# Altium schematic symbol library CHXXX.schlib: 418 symbols (part 6 of 6)
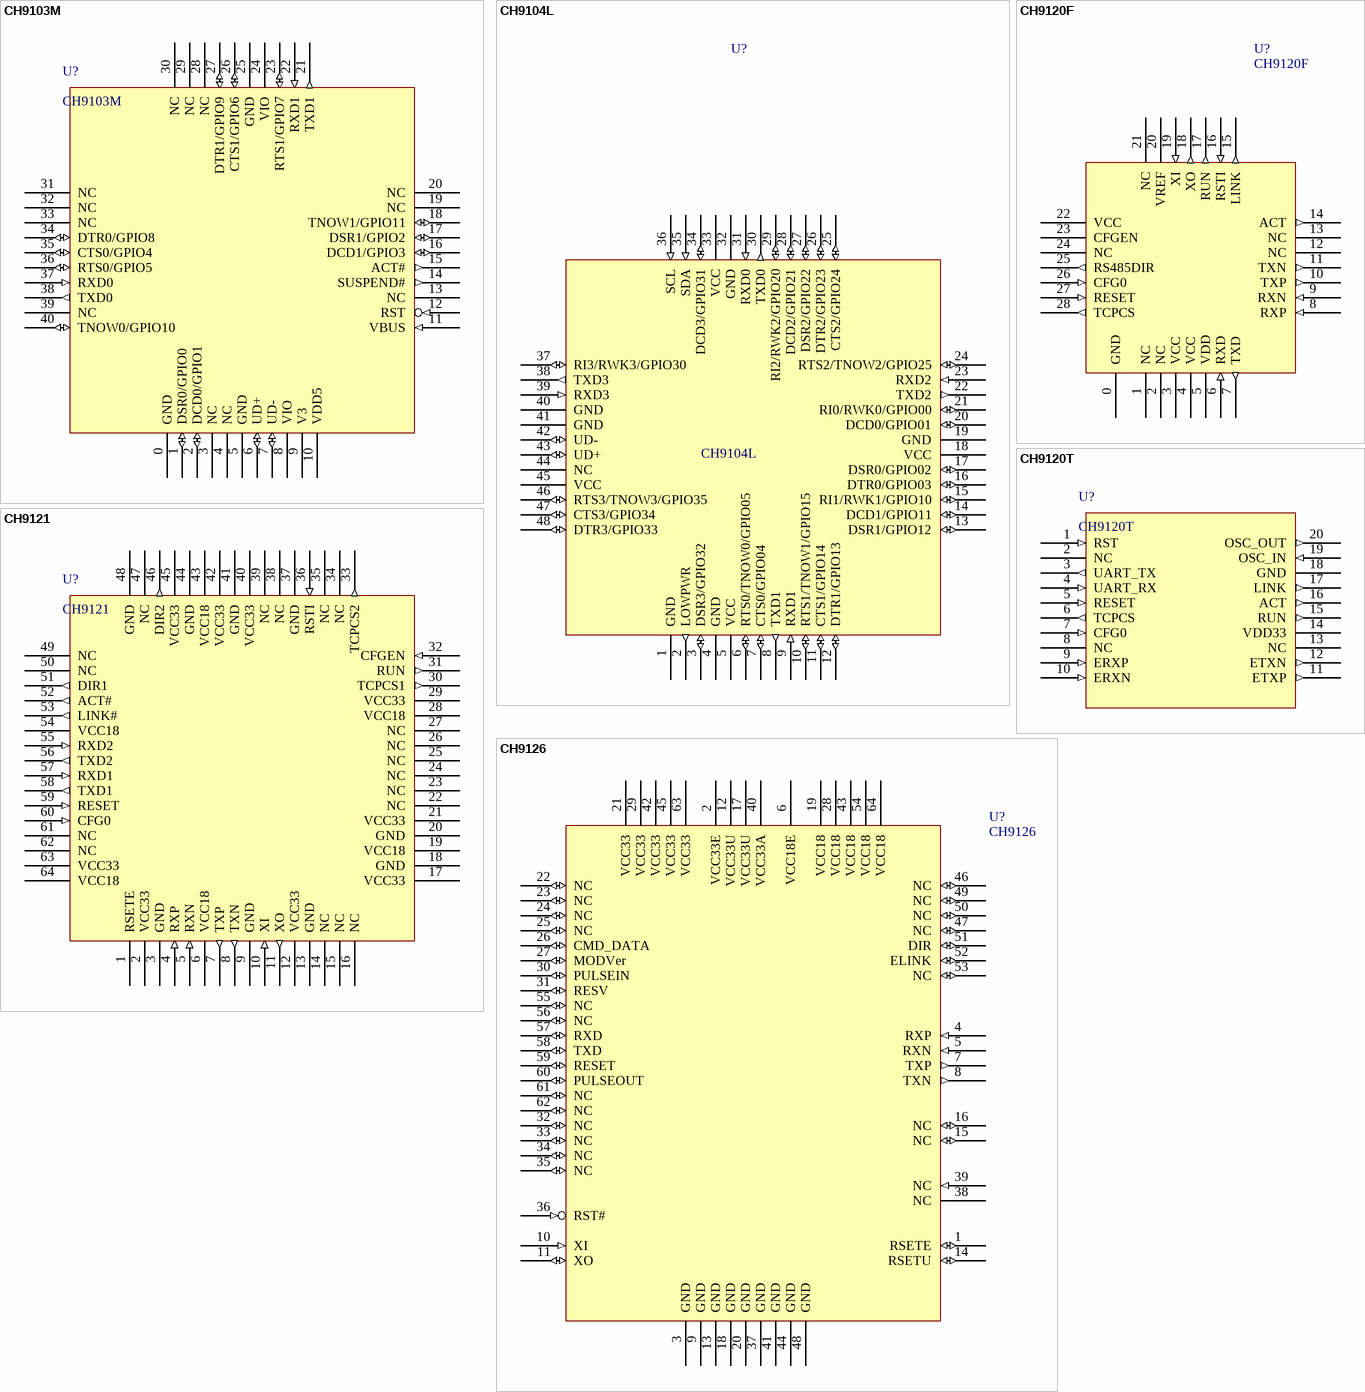
[diagram p54: symbols CH9103M to CH9126]

## CH9104L
designator U?
USB to quad serial ports / 4*UART
footprint TQFP48_7x7
pins: 1 GND (power), 2 LOWPWR (out), 3 DSR3/GPIO32 (io), 4 GND (power), 5 VCC (power), 6 RTS0/TNOW0/GPIO05 (io), 7 CTS0/GPIO04 (io), 8 TXD1 (out), 9 RXD1 (in), 10 RTS1/TNOW1/GPIO15 (io), 11 CTS1/GPIO14 (io), 12 DTR1/GPIO13 (io), 13 DSR1/GPIO12 (io), 14 DCD1/GPIO11 (io), 15 RI1/RWK1/GPIO10 (io), 16 DTR0/GPIO03 (io), 17 DSR0/GPIO02 (io), 18 VCC (power), 19 GND (power), 20 DCD0/GPIO01 (io), 21 RI0/RWK0/GPIO00 (io), 22 TXD2 (out), 23 RXD2 (in), 24 RTS2/TNOW2/GPIO25 (io), 25 CTS2/GPIO24 (io), 26 DTR2/GPIO23 (io), 27 DSR2/GPIO22 (io), 28 DCD2/GPIO21 (io), 29 RI2/RWK2/GPIO20 (io), 30 TXD0 (out), 31 RXD0 (in), 32 GND (power), 33 VCC (power), 34 DCD3/GPIO31 (io), 35 SDA (in), 36 SCL (in), 37 RI3/RWK3/GPIO30 (io), 38 TXD3 (out), 39 RXD3 (in), 40 GND (power), 41 GND (power), 42 UD- (io), 43 UD+ (io), 44 NC, 45 VCC (power), 46 RTS3/TNOW3/GPIO35 (io), 47 CTS3/GPIO34 (io), 48 DTR3/GPIO33 (io)

## CH9120F
designator U?
TTL serail / UART to 10Mbps ethernet
footprint QFN28_4X4
pins: 0 GND (power), 1 NC, 2 NC, 3 VCC (power), 4 VCC (power), 5 VDD (power), 6 RXD (in), 7 TXD (out), 8 RXP (in), 9 RXN (in), 10 TXP (out), 11 TXN (out), 12 NC, 13 NC, 14 ACT (out), 15 LINK (out), 16 RSTI (in), 17 RUN (out), 18 XO (out), 19 XI (in), 20 VREF (power), 21 NC, 22 VCC (power), 23 CFGEN, 24 NC, 25 RS485DIR (out), 26 CFG0 (in), 27 RESET (in), 28 TCPCS (out)

## CH9120T
designator U?
TTL serail / UART to 10Mbps ethernet
footprint TSSOP20
pins: 1 RST (in), 2 NC, 3 UART_TX (out), 4 UART_RX (in), 5 RESET (in), 6 TCPCS (out), 7 CFG0 (in), 8 NC, 9 ERXP (in), 10 ERXN (in), 11 ETXP (out), 12 ETXN (out), 13 NC, 14 VDD33 (power), 15 RUN (out), 16 ACT (out), 17 LINK (out), 18 GND (power), 19 OSC_IN (in), 20 OSC_OUT (out)

## CH9121
designator U?
dual TTL serail / 2*UART to 10Mbps/100Mbps Ethernet
footprint LQFP64M_10x10
pins: 1 RSETE, 2 VCC33 (power), 3 GND, 4 RXP (in), 5 RXN (in), 6 VCC18 (power), 7 TXP (out), 8 TXN (out), 9 GND (power), 10 XI (in), 11 XO (out), 12 VCC33 (power), 13 GND (power), 14 NC, 15 NC, 16 NC, 17 VCC33 (power), 18 GND (power), 19 VCC18 (power), 20 GND (power), 21 VCC33 (power), 22 NC, 23 NC, 24 NC, 25 NC, 26 NC, 27 NC, 28 VCC18 (power), 29 VCC33 (power), 30 TCPCS1 (out), 31 RUN (out), 32 CFGEN (in), 33 TCPCS2 (out), 34 NC, 35 NC, 36 RSTI (in), 37 GND (power), 38 NC, 39 NC, 40 VCC33 (power), 41 GND (power), 42 VCC33 (power), 43 VCC18 (power), 44 GND (power), 45 VCC33 (power), 46 DIR2 (out), 47 NC, 48 GND (power), 49 NC, 50 NC, 51 DIR1 (out), 52 ACT# (out), 53 LINK# (out), 54 VCC18 (power), 55 RXD2 (in), 56 TXD2 (out), 57 RXD1 (in), 58 TXD1 (out), 59 RESET (in), 60 CFG0 (in), 61 NC, 62 NC, 63 VCC33 (power), 64 VCC18 (power)

## CH9126
designator U?
SNTP via 100Mbps Ethernet
footprint LQFP64M_10x10
pins: 1 RSETE (io), 2 VCC33E (power), 3 GND (power), 4 RXP (in), 5 RXN (in), 6 VCC18E (power), 7 TXP (out), 8 TXN (out), 9 GND (power), 10 XI (in), 11 XO (io), 12 VCC33U (power), 13 GND (power), 14 RSETU (io), 15 NC (io), 16 NC (io), 17 VCC33U (power), 18 GND (power), 19 VCC18 (power), 20 GND (power), 21 VCC33 (power), 22 NC (io), 23 NC (io), 24 NC (io), 25 NC (io), 26 CMD_DATA (io), 27 MODVer (io), 28 VCC18 (power), 29 VCC33 (power), 30 PULSEIN (io), 31 RESV (io), 32 NC (io), 33 NC (io), 34 NC (io), 35 NC (io), 36 RST# (in), 37 GND (power), 38 NC (power), 39 NC (in), 40 VCC33A (power), 41 GND (power), 42 VCC33 (power), 43 VCC18 (power), 44 GND (power), 45 VCC33 (power), 46 NC (io), 47 NC (io), 48 GND (power), 49 NC (io), 50 NC (io), 51 DIR (io), 52 ELINK (io), 53 NC (io), 54 VCC18 (power), 55 NC (io), 56 NC (io), 57 RXD (io), 58 TXD (io), 59 RESET (io), 60 PULSEOUT (io), 61 NC (io), 62 NC (io), 63 VCC33 (power), 64 VCC18 (power)
2 alternate drawings of the same symbol

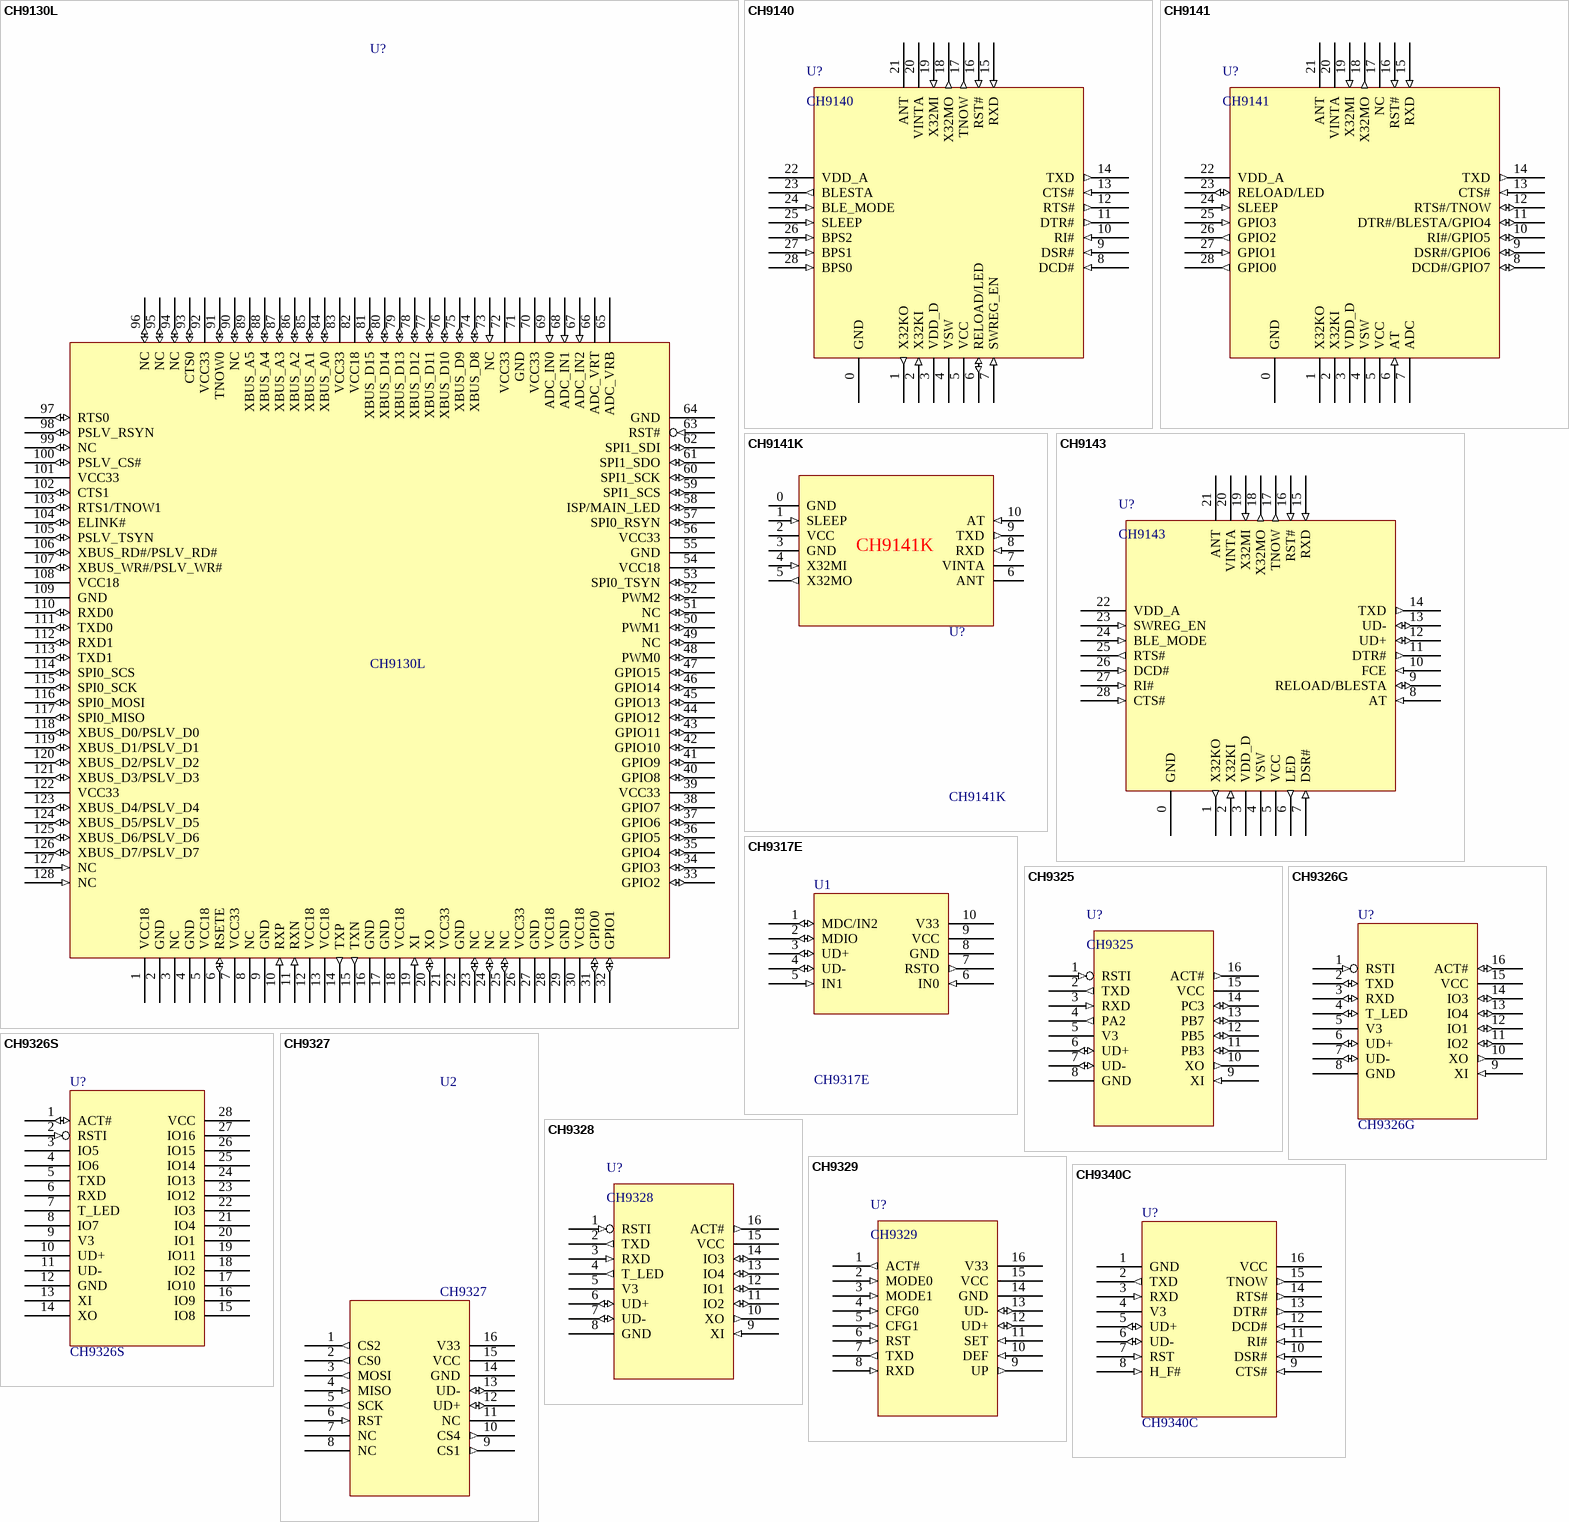
[diagram p46: symbols CH9130L to CH9340C]

## CH9130L
designator U?
remote UART/SPI/GPIO/ADC/PWM/parallel via 100Mbps Ethernet
footprint LQFP128
pins: 1 VCC18 (power), 2 GND (power), 3 NC, 4 GND (power), 5 VCC18 (power), 6 RSETE (io), 7 VCC33 (power), 8 NC, 9 GND (power), 10 RXP (in), 11 RXN (in), 12 VCC18 (power), 13 VCC18 (power), 14 TXP (out), 15 TXN (out), 16 GND (power), 17 GND (power), 18 VCC18 (power), 19 XI (in), 20 XO (io), 21 VCC33 (power), 22 GND (power), 23 NC (io), 24 NC (io), 25 NC (io), 26 VCC33 (power), 27 GND (power), 28 VCC18 (power), 29 GND (power), 30 VCC18 (power), 31 GPIO0 (io), 32 GPIO1 (io), 33 GPIO2 (io), 34 GPIO3 (io), 35 GPIO4 (io), 36 GPIO5 (io), 37 GPIO6 (io), 38 GPIO7 (io), 39 VCC33 (power), 40 GPIO8 (io), 41 GPIO9 (io), 42 GPIO10 (io), 43 GPIO11 (io), 44 GPIO12 (io), 45 GPIO13 (io), 46 GPIO14 (io), 47 GPIO15 (io), 48 PWM0 (io), 49 NC (io), 50 PWM1 (io), 51 NC (io), 52 PWM2 (io), 53 SPI0_TSYN (io), 54 VCC18 (power), 55 GND (power), 56 VCC33 (power), 57 SPI0_RSYN (io), 58 ISP/MAIN_LED (io), 59 SPI1_SCS (io), 60 SPI1_SCK (io), 61 SPI1_SDO (io), 62 SPI1_SDI (io), 63 RST# (in), 64 GND (power), 65 ADC_VRB (power), 66 ADC_VRT (power), 67 ADC_IN2 (in), 68 ADC_IN1 (in), 69 ADC_IN0 (in), 70 VCC33 (power), 71 GND (power), 72 VCC33 (power), 73 NC (in), 74 XBUS_D8 (io), 75 XBUS_D9 (io), 76 XBUS_D10 (io), 77 XBUS_D11 (io), 78 XBUS_D12 (io), 79 XBUS_D13 (io), 80 XBUS_D14 (io), 81 XBUS_D15 (io), 82 VCC18 (power), 83 VCC33 (power), 84 XBUS_A0 (io), 85 XBUS_A1 (io), 86 XBUS_A2 (io), 87 XBUS_A3 (io), 88 XBUS_A4 (io), 89 XBUS_A5 (io), 90 NC (io), 91 TNOW0 (io), 92 VCC33 (power), 93 CTS0 (io), 94 NC (io), 95 NC (io), 96 NC (io), 97 RTS0 (io), 98 PSLV_RSYN (io), 99 NC (io), 100 PSLV_CS# (io), 101 VCC33 (power), 102 CTS1 (io), 103 RTS1/TNOW1 (io), 104 ELINK# (io), 105 PSLV_TSYN (io), 106 XBUS_RD#/PSLV_RD# (io), 107 XBUS_WR#/PSLV_WR# (io), 108 VCC18 (power), 109 GND (power), 110 RXD0 (io), 111 TXD0 (io), 112 RXD1 (io), 113 TXD1 (io), 114 SPI0_SCS (io), 115 SPI0_SCK (io), 116 SPI0_MOSI (io), 117 SPI0_MISO (io), 118 XBUS_D0/PSLV_D0 (io), 119 XBUS_D1/PSLV_D1 (io), 120 XBUS_D2/PSLV_D2 (io), 121 XBUS_D3/PSLV_D3 (io), 122 VCC33 (power), 123 XBUS_D4/PSLV_D4 (io), 124 XBUS_D5/PSLV_D5 (io), 125 XBUS_D6/PSLV_D6 (io), 126 XBUS_D7/PSLV_D7 (io), 127 NC (in), 128 NC (in)

## CH9140
designator U?
Bluetooth-LowEnergy to UART
footprint QFN28_4X4
pins: 0 GND (power), 1 X32KO (out), 2 X32KI (in), 3 VDD_D (power), 4 VSW (power), 5 VCC (power), 6 RELOAD/LED (io), 7 SWREG_EN (in), 8 DCD# (in), 9 DSR# (in), 10 RI# (in), 11 DTR# (out), 12 RTS# (out), 13 CTS# (in), 14 TXD (out), 15 RXD (in), 16 RST# (in), 17 TNOW (out), 18 X32MO (out), 19 X32MI (in), 20 VINTA (power), 21 ANT, 22 VDD_A (power), 23 BLESTA (out), 24 BLE_MODE (in), 25 SLEEP (in), 26 BPS2 (in), 27 BPS1 (in), 28 BPS0 (in)

## CH9141
designator U?
Bluetooth-LowEnergy & UART Mutual Transport
footprint QFN28_4X4
pins: 0 GND (power), 1 X32KO, 2 X32KI, 3 VDD_D (power), 4 VSW (power), 5 VCC (power), 6 AT (in), 7 ADC, 8 DCD#/GPIO7 (io), 9 DSR#/GPIO6 (io), 10 RI#/GPIO5 (io), 11 DTR#/BLESTA/GPIO4 (io), 12 RTS#/TNOW (io), 13 CTS# (in), 14 TXD (out), 15 RXD (in), 16 RST# (in), 17 NC (hiz), 18 X32MO (out), 19 X32MI (in), 20 VINTA (power), 21 ANT, 22 VDD_A (power), 23 RELOAD/LED (io), 24 SLEEP (in), 25 GPIO3 (in), 26 GPIO2 (out), 27 GPIO1 (in), 28 GPIO0 (out)

## CH9141K
designator U?
Bluetooth-LowEnergy & UART Mutual Transport
footprint ESSOP10
pins: 0 GND (power), 1 SLEEP (in), 2 VCC (power), 3 GND (power), 4 X32MI (in), 5 X32MO (out), 6 ANT (power), 7 VINTA (power), 8 RXD (in), 9 TXD (out), 10 AT (in)

## CH9143
designator U?
Bluetooth-LowEnergy & UART & USB Mutual Transport
footprint QFN28_4X4
pins: 0 GND (power), 1 X32KO (out), 2 X32KI (in), 3 VDD_D (power), 4 VSW (power), 5 VCC (power), 6 LED (out), 7 DSR# (in), 8 AT (in), 9 RELOAD/BLESTA (io), 10 FCE (in), 11 DTR# (out), 12 UD+ (io), 13 UD- (io), 14 TXD (out), 15 RXD (in), 16 RST# (in), 17 TNOW (out), 18 X32MO (out), 19 X32MI (in), 20 VINTA (power), 21 ANT, 22 VDD_A (power), 23 SWREG_EN (in), 24 BLE_MODE (in), 25 RTS# (out), 26 DCD# (in), 27 RI# (in), 28 CTS# (in)

## CH9317E
designator U1
Auxiliary Configuration for CH317L
footprint MSOP10
pins: 1 MDC/IN2 (io), 2 MDIO (io), 3 UD+ (io), 4 UD- (io), 5 IN1 (in), 6 IN0 (in), 7 RSTO (out), 8 GND (power), 9 VCC (power), 10 V33 (power)

## CH9325
designator U?
USB HID to TTL Serial / UART
footprint SOP16
pins: 1 RSTI (in), 2 TXD (out), 3 RXD (in), 4 PA2 (out), 5 V3 (power), 6 UD+ (io), 7 UD- (io), 8 GND (power), 9 XI (in), 10 XO (out), 11 PB3 (io), 12 PB5 (io), 13 PB7 (io), 14 PC3 (io), 15 VCC (power), 16 ACT# (out)

## CH9326G
designator U?
HID USB to UART Bridge, TTL Serial
footprint SOP16
pins: 1 RSTI (in), 2 TXD (io), 3 RXD (io), 4 T_LED (io), 5 V3 (power), 6 UD+ (io), 7 UD- (io), 8 GND (power), 9 XI (in), 10 XO (out), 11 IO2 (io), 12 IO1 (io), 13 IO4 (io), 14 IO3 (io), 15 VCC (power), 16 ACT# (io)

## CH9326S
designator U?
HID USB to UART Bridge, TTL Serial
footprint SOP28
pins: 1 ACT# (io), 2 RSTI (in), 3 IO5, 4 IO6, 5 TXD, 6 RXD, 7 T_LED, 8 IO7, 9 V3, 10 UD+, 11 UD-, 12 GND, 13 XI, 14 XO, 15 IO8, 16 IO9, 17 IO10, 18 IO2, 19 IO11, 20 IO1, 21 IO4, 22 IO3, 23 IO12, 24 IO13, 25 IO14, 26 IO15, 27 IO16, 28 VCC

## CH9327
designator U2
USB to SPI
footprint SOP16
pins: 1 CS2 (out), 2 CS0 (out), 3 MOSI (out), 4 MISO (in), 5 SCK (out), 6 RST (in), 7 NC, 8 NC, 9 CS1 (out), 10 CS4 (out), 11 NC, 12 UD+ (io), 13 UD- (io), 14 GND (power), 15 VCC (power), 16 V33 (power)
2 alternate drawings of the same symbol

## CH9328
designator U?
UART to USB Keyboard
footprint SOP16
pins: 1 RSTI (in), 2 TXD (out), 3 RXD (in), 4 T_LED (out), 5 V3 (power), 6 UD+ (io), 7 UD- (io), 8 GND (power), 9 XI (in), 10 XO (out), 11 IO2 (io), 12 IO1 (io), 13 IO4 (io), 14 IO3 (io), 15 VCC (power), 16 ACT# (out)

## CH9329
designator U?
UART to USB HID Device
footprint SOP16
pins: 1 ACT# (out), 2 MODE0 (in), 3 MODE1 (in), 4 CFG0 (in), 5 CFG1 (in), 6 RST (in), 7 TXD (out), 8 RXD (in), 9 UP (out), 10 DEF (in), 11 SET (in), 12 UD+ (io), 13 UD- (io), 14 GND (power), 15 VCC (power), 16 V33 (power)

## CH9340C
designator U?
USB CDC to TTL Serial / UART
footprint SOP16
pins: 1 GND (power), 2 TXD (out), 3 RXD (in), 4 V3 (power), 5 UD+ (io), 6 UD- (io), 7 RST (in), 8 H_F# (in), 9 CTS# (in), 10 DSR# (in), 11 RI# (in), 12 DCD# (in), 13 DTR# (out), 14 RTS# (out), 15 TNOW (out), 16 VCC (power)

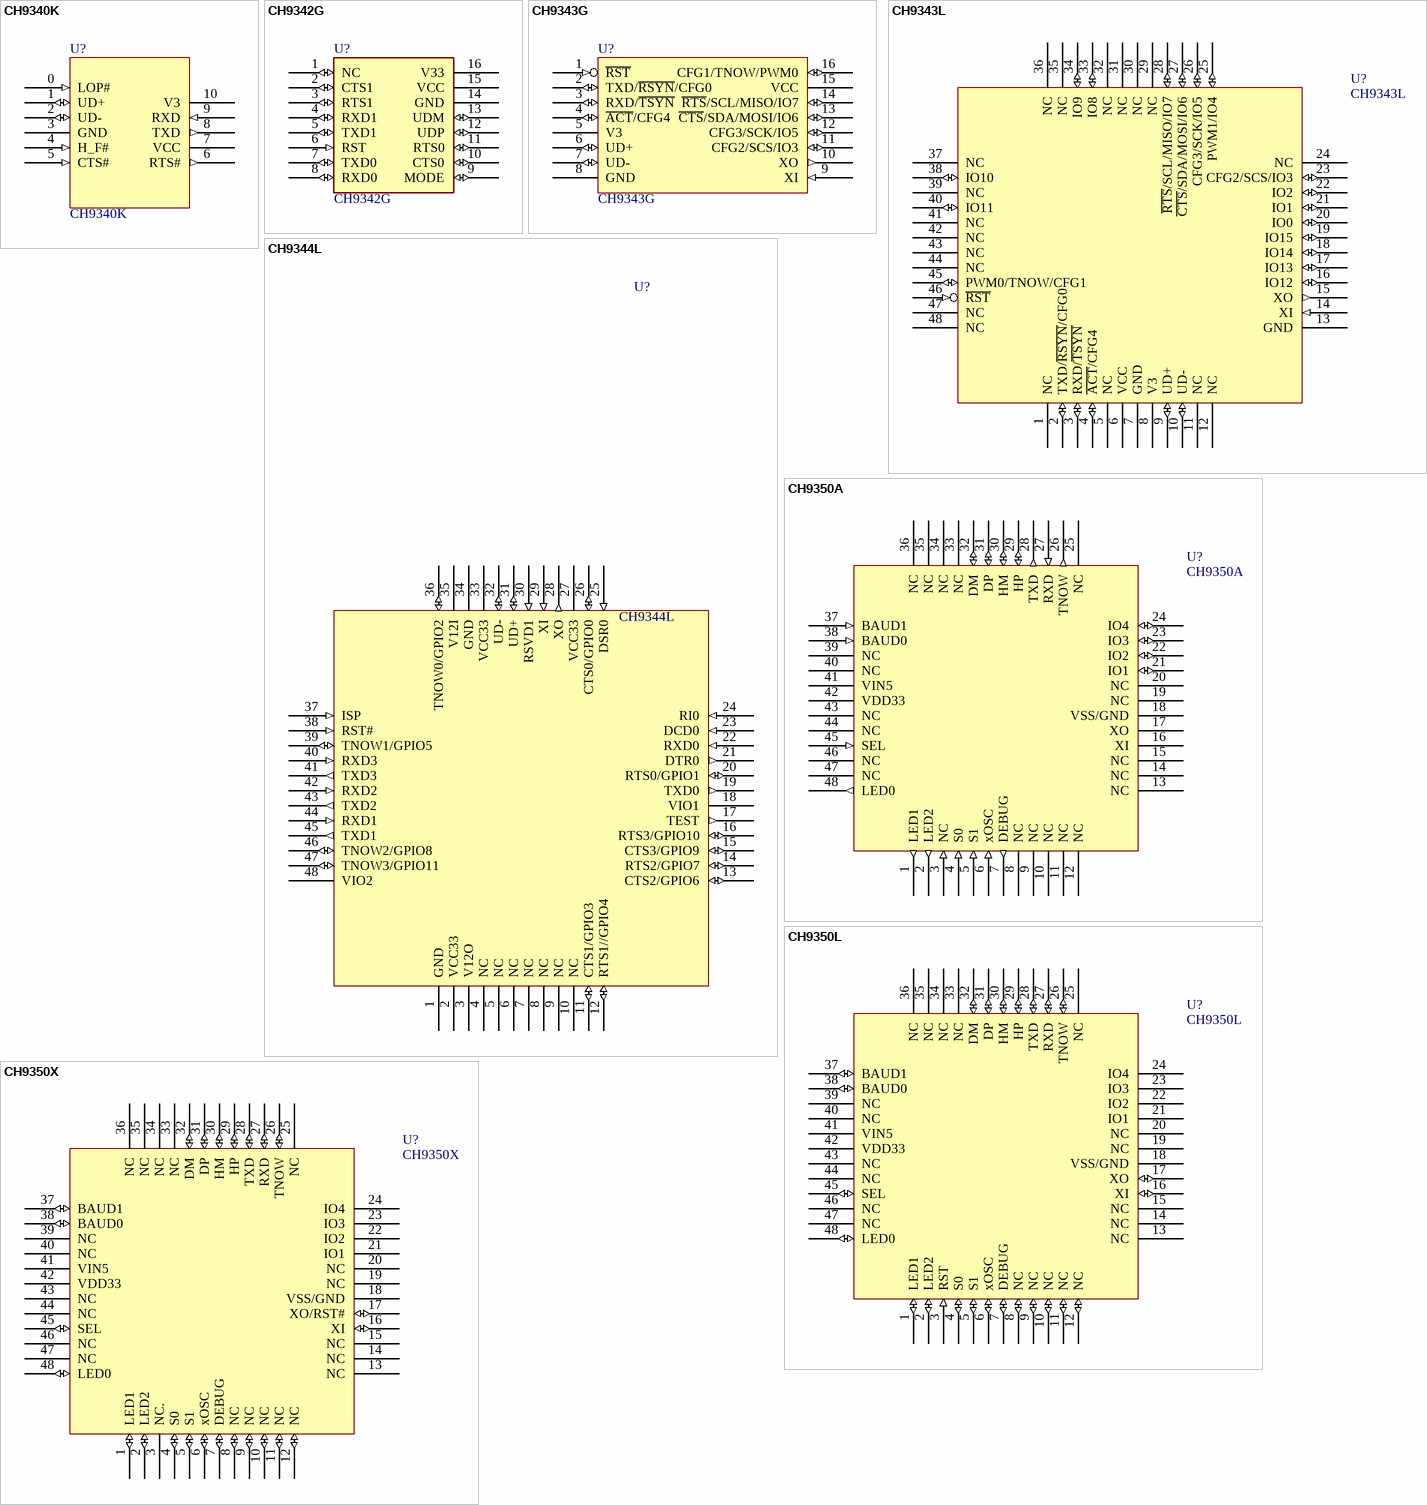
[diagram p47: symbols CH9340K to CH9350X]

## CH9340K
designator U?
USB CDC to TTL Serial / UART
footprint ESSOP10
pins: 0 LOP# (in), 1 UD+ (io), 2 UD- (io), 3 GND (power), 4 H_F# (in), 5 CTS# (in), 6 RTS# (out), 7 VCC (power), 8 TXD (out), 9 RXD (in), 10 V3 (power)

## CH9342G
designator U?
USB to dual TTL Serial / 2*UART
footprint SOP16
pins: 1 NC (io), 2 CTS1 (io), 3 RTS1 (io), 4 RXD1 (io), 5 TXD1 (io), 6 RST (in), 7 TXD0 (io), 8 RXD0 (io), 9 MODE (io), 10 CTS0 (io), 11 RTS0 (io), 12 UDP (io), 13 UDM (io), 14 GND (power), 15 VCC (power), 16 V33 (power)
2 alternate drawings of the same symbol

## CH9343G
designator U?
Full-Speed USB host for accessing peripheral hardware from Android platform
footprint SOP16
pins: 1 ~{RST} (in), 2 TXD/~{RSYN}/CFG0 (io), 3 RXD/~{TSYN} (io), 4 ~{ACT}/CFG4 (io), 5 V3 (power), 6 UD+ (io), 7 UD- (io), 8 GND (power), 9 XI (in), 10 XO (out), 11 CFG2/SCS/IO3 (io), 12 CFG3/SCK/IO5 (io), 13 ~{CTS}/SDA/MOSI/IO6 (io), 14 ~{RTS}/SCL/MISO/IO7 (io), 15 VCC (power), 16 CFG1/TNOW/PWM0 (io)

## CH9343L
designator U?
Full-Speed USB host for accessing peripheral hardware from Android platform
footprint LQFP48
pins: 1 NC, 2 TXD/~{RSYN}/CFG0 (io), 3 RXD/~{TSYN} (io), 4 ~{ACT}/CFG4 (io), 5 NC, 6 VCC (power), 7 GND (power), 8 V3 (power), 9 UD+ (io), 10 UD- (io), 11 NC, 12 NC, 13 GND (power), 14 XI (in), 15 XO (out), 16 IO12 (io), 17 IO13 (io), 18 IO14 (io), 19 IO15 (io), 20 IO0 (io), 21 IO1 (io), 22 IO2 (io), 23 CFG2/SCS/IO3 (io), 24 NC, 25 PWM1/IO4 (io), 26 CFG3/SCK/IO5 (io), 27 ~{CTS}/SDA/MOSI/IO6 (io), 28 ~{RTS}/SCL/MISO/IO7 (io), 29 NC, 30 NC, 31 NC, 32 NC, 33 IO8 (io), 34 IO9 (io), 35 NC, 36 NC, 37 NC, 38 IO10 (io), 39 NC, 40 IO11 (io), 41 NC, 42 NC, 43 NC, 44 NC, 45 PWM0/TNOW/CFG1 (io), 46 ~{RST} (in), 47 NC, 48 NC

## CH9344L
designator U?
USB high-speed to quad TTL Serial / UART
footprint LQFP48
pins: 1 GND (power), 2 VCC33 (power), 3 V12O (power), 4 NC, 5 NC, 6 NC, 7 NC, 8 NC, 9 NC, 10 NC, 11 CTS1/GPIO3 (io), 12 RTS1//GPIO4 (io), 13 CTS2/GPIO6 (io), 14 RTS2/GPIO7 (io), 15 CTS3/GPIO9 (io), 16 RTS3/GPIO10 (io), 17 TEST (out), 18 VIO1 (power), 19 TXD0 (out), 20 RTS0/GPIO1 (io), 21 DTR0 (out), 22 RXD0 (in), 23 DCD0 (in), 24 RI0 (in), 25 DSR0 (in), 26 CTS0/GPIO0 (io), 27 VCC33 (power), 28 XO (out), 29 XI (in), 30 RSVD1 (in), 31 UD+ (io), 32 UD- (io), 33 VCC33 (power), 34 GND (power), 35 V12I (power), 36 TNOW0/GPIO2 (io), 37 ISP (in), 38 RST# (in), 39 TNOW1/GPIO5 (io), 40 RXD3 (in), 41 TXD3 (out), 42 RXD2 (in), 43 TXD2 (out), 44 RXD1 (in), 45 TXD1 (out), 46 TNOW2/GPIO8 (io), 47 TNOW3/GPIO11 (io), 48 VIO2 (power)

## CH9350A
designator U?
USB keyboard & USB mouse to TTL serial / UART
footprint LQFP48
pins: 1 LED1 (out), 2 LED2 (out), 3 NC (in), 4 S0 (in), 5 S1 (in), 6 xOSC (in), 7 DEBUG (out), 8 NC, 9 NC, 10 NC, 11 NC, 12 NC, 13 NC, 14 NC, 15 NC, 16 XI, 17 XO, 18 VSS/GND, 19 NC, 20 NC, 21 IO1 (io), 22 IO2 (io), 23 IO3 (io), 24 IO4 (io), 25 NC, 26 TNOW (out), 27 RXD (in), 28 TXD (out), 29 HP (io), 30 HM (io), 31 DP (io), 32 DM (io), 33 NC, 34 NC, 35 NC, 36 NC, 37 BAUD1 (in), 38 BAUD0 (in), 39 NC, 40 NC, 41 VIN5, 42 VDD33, 43 NC, 44 NC, 45 SEL (in), 46 NC, 47 NC, 48 LED0 (out)
2 alternate drawings of the same symbol

## CH9350L
designator U?
USB keyboard & USB mouse to TTL serial / UART
footprint LQFP48
pins: 1 LED1 (io), 2 LED2 (io), 3 RST (in), 4 S0 (io), 5 S1 (io), 6 xOSC (io), 7 DEBUG (io), 8 NC (io), 9 NC (io), 10 NC (io), 11 NC (io), 12 NC (io), 13 NC, 14 NC, 15 NC, 16 XI (io), 17 XO (io), 18 VSS/GND (power), 19 NC, 20 NC, 21 IO1, 22 IO2, 23 IO3, 24 IO4, 25 NC, 26 TNOW (io), 27 RXD (io), 28 TXD (io), 29 HP (io), 30 HM (io), 31 DP (io), 32 DM (io), 33 NC, 34 NC, 35 NC, 36 NC, 37 BAUD1 (io), 38 BAUD0 (io), 39 NC, 40 NC, 41 VIN5 (power), 42 VDD33 (power), 43 NC, 44 NC, 45 SEL (io), 46 NC, 47 NC, 48 LED0 (io)
2 alternate drawings of the same symbol

## CH9350X
designator U?
USB keyboard & USB mouse to TTL serial / UART
footprint LQFP48
pins: 1 LED1 (io), 2 LED2 (io), 3 NC., 4 S0 (io), 5 S1 (io), 6 xOSC (io), 7 DEBUG (io), 8 NC (io), 9 NC (io), 10 NC (io), 11 NC (io), 12 NC (io), 13 NC, 14 NC, 15 NC, 16 XI (io), 17 XO/RST# (io), 18 VSS/GND (power), 19 NC, 20 NC, 21 IO1, 22 IO2, 23 IO3, 24 IO4, 25 NC, 26 TNOW (io), 27 RXD (io), 28 TXD (io), 29 HP (io), 30 HM (io), 31 DP (io), 32 DM (io), 33 NC, 34 NC, 35 NC, 36 NC, 37 BAUD1 (io), 38 BAUD0 (io), 39 NC, 40 NC, 41 VIN5 (power), 42 VDD33 (power), 43 NC, 44 NC, 45 SEL (io), 46 NC, 47 NC, 48 LED0 (io)
2 alternate drawings of the same symbol

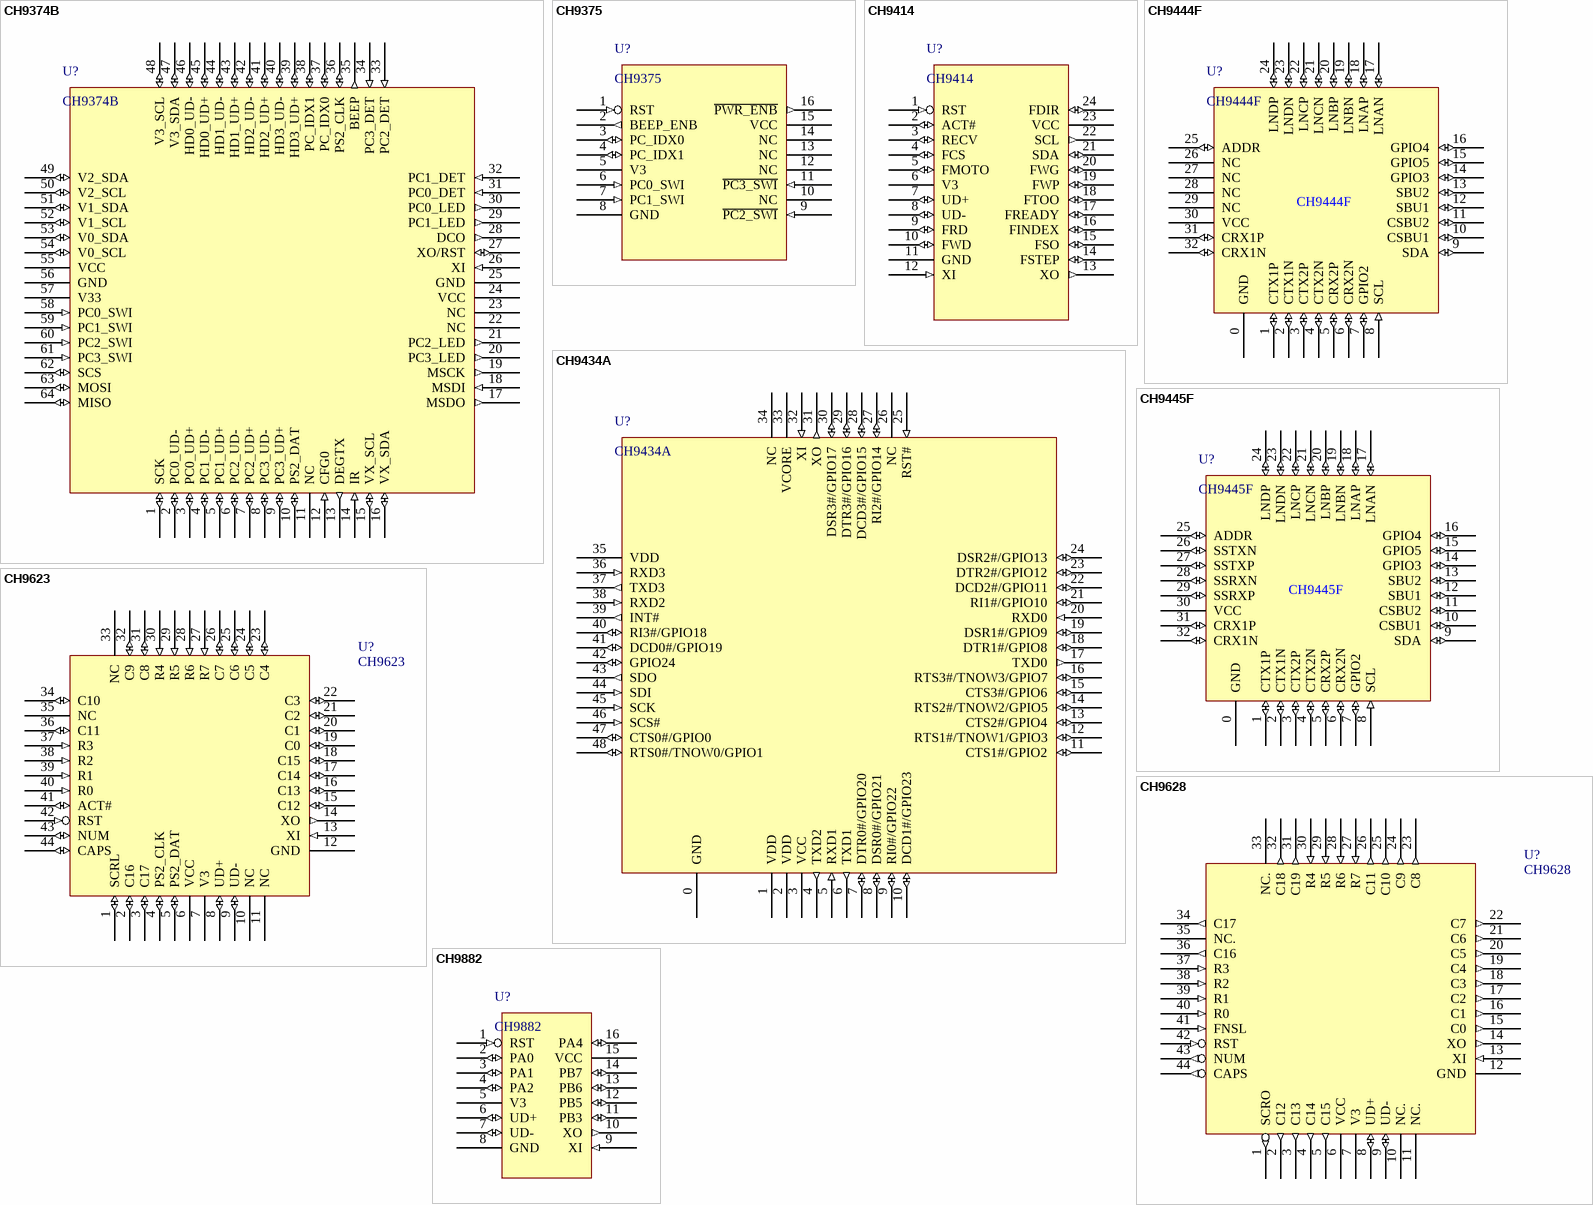
[diagram p48: symbols CH9374B to CH9882]

## CH9374B
designator U?
4-port USB KVM Switch
footprint LQFP64
pins: 1 SCK (io), 2 PC0_UD- (io), 3 PC0_UD+ (io), 4 PC1_UD- (io), 5 PC1_UD+ (io), 6 PC2_UD- (io), 7 PC2_UD+ (io), 8 PC3_UD- (io), 9 PC3_UD+ (io), 10 PS2_DAT (io), 11 NC, 12 CFG0 (in), 13 DEGTX (out), 14 IR (in), 15 VX_SCL (io), 16 VX_SDA (io), 17 MSDO (out), 18 MSDI (in), 19 MSCK (out), 20 PC3_LED (out), 21 PC2_LED (out), 22 NC, 23 NC, 24 VCC (power), 25 GND (power), 26 XI (in), 27 XO/RST (io), 28 DCO (out), 29 PC1_LED (out), 30 PC0_LED (out), 31 PC0_DET (in), 32 PC1_DET (in), 33 PC2_DET (in), 34 PC3_DET (in), 35 BEEP (out), 36 PS2_CLK (io), 37 PC_IDX0 (io), 38 PC_IDX1 (io), 39 HD3_UD+ (io), 40 HD3_UD- (io), 41 HD2_UD+ (io), 42 HD2_UD- (io), 43 HD1_UD+ (io), 44 HD1_UD- (io), 45 HD0_UD+ (io), 46 HD0_UD- (io), 47 V3_SDA (io), 48 V3_SCL (io), 49 V2_SDA (io), 50 V2_SCL (io), 51 V1_SDA (io), 52 V1_SCL (io), 53 V0_SDA (io), 54 V0_SCL (io), 55 VCC (power), 56 GND (power), 57 V33 (power), 58 PC0_SWI (in), 59 PC1_SWI (in), 60 PC2_SWI (in), 61 PC3_SWI (in), 62 SCS (io), 63 MOSI (io), 64 MISO (io)

## CH9375
designator U?
2-port/4-port manual USB KVM switch
footprint SOP16
pins: 1 RST (in), 2 BEEP_ENB (out), 3 PC_IDX0 (io), 4 PC_IDX1 (io), 5 V3 (power), 6 PC0_SWI (in), 7 PC1_SWI (in), 8 GND (power), 9 ~{PC2_SWI} (in), 10 NC, 11 ~{PC3_SWI} (in), 12 NC, 13 NC, 14 NC, 15 VCC (power), 16 ~{PWR_ENB} (out)

## CH9414
designator U?
USB floppy drive
footprint SSOP24
pins: 1 RST (in), 2 ACT# (io), 3 RECV (io), 4 FCS (io), 5 FMOTO (io), 6 V3 (power), 7 UD+ (io), 8 UD- (io), 9 FRD (io), 10 FWD (io), 11 GND (power), 12 XI (in), 13 XO (out), 14 FSTEP (io), 15 FSO (io), 16 FINDEX (io), 17 FREADY (io), 18 FTOO (io), 19 FWP (io), 20 FWG (io), 21 SDA (io), 22 SCL (out), 23 VCC (power), 24 FDIR (io)

## CH9434A
designator U?
SPI to quad TTL Serial / 4*UART
footprint QFN48_5X5
pins: 0 GND (power), 1 VDD (power), 2 VDD (power), 3 VCC (power), 4 TXD2 (out), 5 RXD1 (in), 6 TXD1 (out), 7 DTR0#/GPIO20 (io), 8 DSR0#/GPIO21 (io), 9 RI0#/GPIO22 (io), 10 DCD1#/GPIO23 (io), 11 CTS1#/GPIO2 (io), 12 RTS1#/TNOW1/GPIO3 (io), 13 CTS2#/GPIO4 (io), 14 RTS2#/TNOW2/GPIO5 (io), 15 CTS3#/GPIO6 (io), 16 RTS3#/TNOW3/GPIO7 (io), 17 TXD0 (out), 18 DTR1#/GPIO8 (io), 19 DSR1#/GPIO9 (io), 20 RXD0 (in), 21 RI1#/GPIO10 (io), 22 DCD2#/GPIO11 (io), 23 DTR2#/GPIO12 (io), 24 DSR2#/GPIO13 (io), 25 RST# (in), 26 NC, 27 RI2#/GPIO14 (io), 28 DCD3#/GPIO15 (io), 29 DTR3#/GPIO16 (io), 30 DSR3#/GPIO17 (io), 31 XO (out), 32 XI (in), 33 VCORE (power), 34 NC, 35 VDD (power), 36 RXD3 (in), 37 TXD3 (out), 38 RXD2 (in), 39 INT# (out), 40 RI3#/GPIO18 (io), 41 DCD0#/GPIO19 (io), 42 GPIO24 (io), 43 SDO (out), 44 SDI (in), 45 SCK (in), 46 SCS# (in), 47 CTS0#/GPIO0 (io), 48 RTS0#/TNOW0/GPIO1 (io)

## CH9444F
designator U?
Ultra high speed differential signal bidirectional analog switch, DP1.4 & USB3.0 & USB3.2 Gen2x2.
footprint QFN32_4x4
pins: 0 GND (power), 1 CTX1P (io), 2 CTX1N (io), 3 CTX2P (io), 4 CTX2N (io), 5 CRX2P (io), 6 CRX2N (io), 7 GPIO2 (io), 8 SCL (in), 9 SDA (io), 10 CSBU1 (io), 11 CSBU2 (io), 12 SBU1 (io), 13 SBU2 (io), 14 GPIO3 (io), 15 GPIO5 (io), 16 GPIO4 (io), 17 LNAN (io), 18 LNAP (io), 19 LNBN (io), 20 LNBP (io), 21 LNCN (io), 22 LNCP (io), 23 LNDN (io), 24 LNDP (io), 25 ADDR (io), 26 NC, 27 NC, 28 NC, 29 NC, 30 VCC (power), 31 CRX1P (io), 32 CRX1N (io)

## CH9445F
designator U?
Ultra high speed differential signal bidirectional analog switch, DP1.4 & USB3.0 & USB3.2 Gen2x2.
footprint QFN32_4x4
pins: 0 GND (power), 1 CTX1P (io), 2 CTX1N (io), 3 CTX2P (io), 4 CTX2N (io), 5 CRX2P (io), 6 CRX2N (io), 7 GPIO2 (io), 8 SCL (in), 9 SDA (io), 10 CSBU1 (io), 11 CSBU2 (io), 12 SBU1 (io), 13 SBU2 (io), 14 GPIO3 (io), 15 GPIO5 (io), 16 GPIO4 (io), 17 LNAN (io), 18 LNAP (io), 19 LNBN (io), 20 LNBP (io), 21 LNCN (io), 22 LNCP (io), 23 LNDN (io), 24 LNDP (io), 25 ADDR (io), 26 SSTXN (io), 27 SSTXP (io), 28 SSRXN (io), 29 SSRXP (io), 30 VCC (power), 31 CRX1P (io), 32 CRX1N (io)

## CH9623
designator U?
USB keyboard controller with PS2 touchpad decoder
footprint LQFP44
pins: 1 SCRL (io), 2 C16 (io), 3 C17 (io), 4 PS2_CLK (io), 5 PS2_DAT (io), 6 VCC (power), 7 V3 (power), 8 UD+ (io), 9 UD- (io), 10 NC, 11 NC, 12 GND (power), 13 XI (in), 14 XO (out), 15 C12 (io), 16 C13 (io), 17 C14 (io), 18 C15 (io), 19 C0 (io), 20 C1 (io), 21 C2 (io), 22 C3 (io), 23 C4 (io), 24 C5 (io), 25 C6 (io), 26 C7 (io), 27 R7 (in), 28 R6 (in), 29 R5 (in), 30 R4 (in), 31 C8 (io), 32 C9 (io), 33 NC, 34 C10 (io), 35 NC, 36 C11 (io), 37 R3 (in), 38 R2 (in), 39 R1 (in), 40 R0 (in), 41 ACT# (io), 42 RST (in), 43 NUM (io), 44 CAPS (io)

## CH9628
designator U?
USB keyboard controller
footprint LQFP44
pins: 1 SCRO (out), 2 C12 (out), 3 C13 (out), 4 C14 (out), 5 C15 (out), 6 VCC (power), 7 V3 (power), 8 UD+ (io), 9 UD- (io), 10 NC., 11 NC., 12 GND (power), 13 XI (in), 14 XO (out), 15 C0 (out), 16 C1 (out), 17 C2 (out), 18 C3 (out), 19 C4 (out), 20 C5 (out), 21 C6 (out), 22 C7 (out), 23 C8 (out), 24 C9 (out), 25 C10 (out), 26 C11 (out), 27 R7 (in), 28 R6 (in), 29 R5 (in), 30 R4 (in), 31 C19 (out), 32 C18 (out), 33 NC., 34 C17 (out), 35 NC., 36 C16 (out), 37 R3 (in), 38 R2 (in), 39 R1 (in), 40 R0 (in), 41 FNSL (in), 42 RST (in), 43 NUM (out), 44 CAPS (out)

## CH9882
designator U?
2-port USB sharer
footprint SOP16
pins: 1 RST (in), 2 PA0 (io), 3 PA1 (io), 4 PA2 (io), 5 V3 (power), 6 UD+ (io), 7 UD- (io), 8 GND (power), 9 XI (in), 10 XO (out), 11 PB3 (io), 12 PB5 (io), 13 PB6 (io), 14 PB7 (io), 15 VCC (power), 16 PA4 (io)

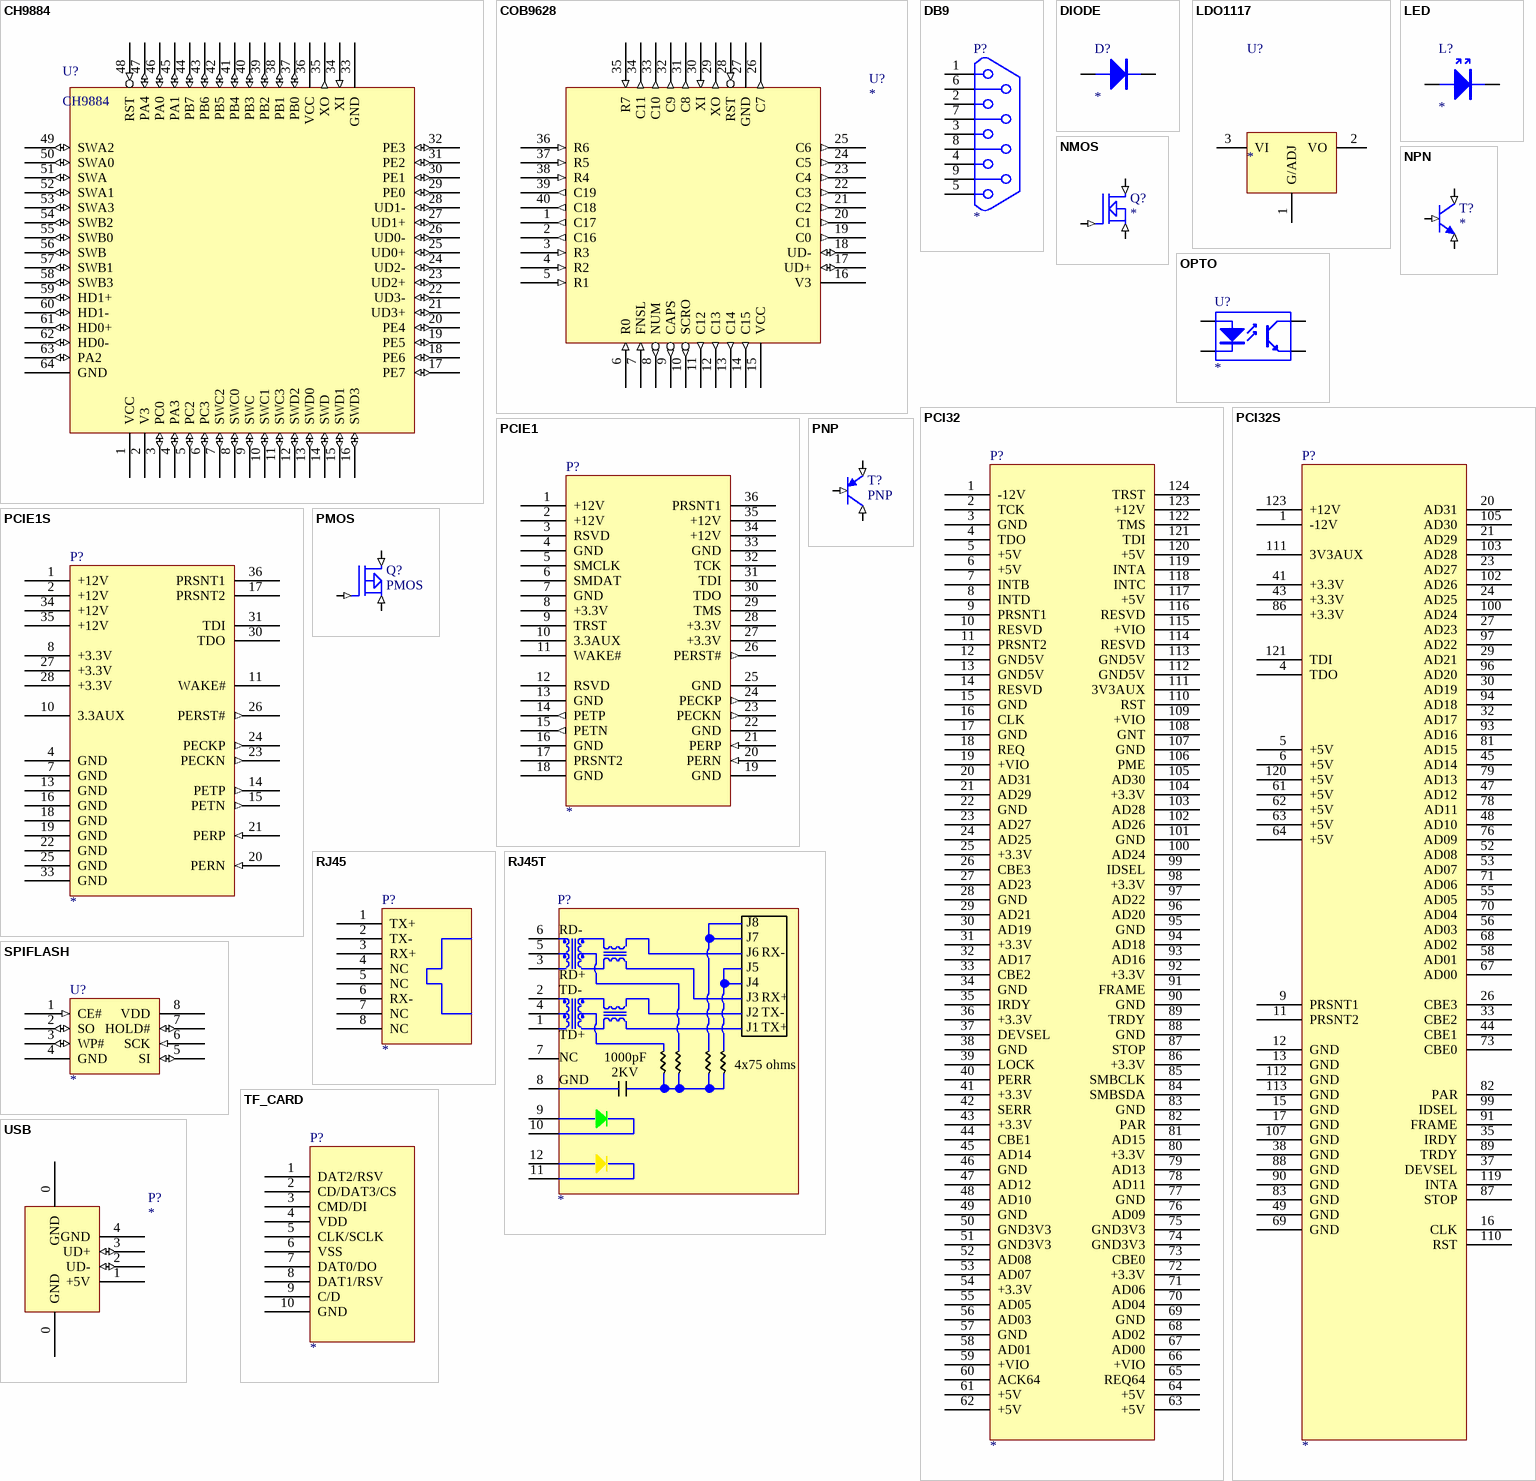
[diagram p49: symbols CH9884 to USB]

## CH9884
designator U?
4-port USB sharer
footprint LQFP64
pins: 1 VCC (power), 2 V3 (power), 3 PC0 (io), 4 PA3 (io), 5 PC2 (io), 6 PC3 (io), 7 SWC2 (io), 8 SWC0 (io), 9 SWC (io), 10 SWC1 (io), 11 SWC3 (io), 12 SWD2 (io), 13 SWD0 (io), 14 SWD (io), 15 SWD1 (io), 16 SWD3 (io), 17 PE7 (io), 18 PE6 (io), 19 PE5 (io), 20 PE4 (io), 21 UD3+ (io), 22 UD3- (io), 23 UD2+ (io), 24 UD2- (io), 25 UD0+ (io), 26 UD0- (io), 27 UD1+ (io), 28 UD1- (io), 29 PE0 (io), 30 PE1 (io), 31 PE2 (io), 32 PE3 (io), 33 GND (power), 34 XI (in), 35 XO (out), 36 VCC (power), 37 PB0 (io), 38 PB1 (io), 39 PB2 (io), 40 PB3 (io), 41 PB4 (io), 42 PB5 (io), 43 PB6 (io), 44 PB7 (io), 45 PA1 (io), 46 PA0 (io), 47 PA4 (io), 48 RST (in), 49 SWA2 (io), 50 SWA0 (io), 51 SWA (io), 52 SWA1 (io), 53 SWA3 (io), 54 SWB2 (io), 55 SWB0 (io), 56 SWB (io), 57 SWB1 (io), 58 SWB3 (io), 59 HD1+ (io), 60 HD1- (io), 61 HD0+ (io), 62 HD0- (io), 63 PA2 (io), 64 GND (power)

## COB9628
designator U?
USB keyboard controller
footprint COB40
pins: 1 C17 (out), 2 C16 (out), 3 R3 (in), 4 R2 (in), 5 R1 (in), 6 R0 (in), 7 FNSL (in), 8 NUM (out), 9 CAPS (out), 10 SCRO (out), 11 C12 (out), 12 C13 (out), 13 C14 (out), 14 C15 (out), 15 VCC (power), 16 V3 (power), 17 UD+ (io), 18 UD- (io), 19 C0 (out), 20 C1 (out), 21 C2 (out), 22 C3 (out), 23 C4 (out), 24 C5 (out), 25 C6 (out), 26 C7 (out), 27 GND (power), 28 RST (in), 29 XO (out), 30 XI (in), 31 C8 (out), 32 C9 (out), 33 C10 (out), 34 C11 (out), 35 R7 (in), 36 R6 (in), 37 R5 (in), 38 R4 (in), 39 C19 (out), 40 C18 (out)

## DB9
designator P?
footprint DB9/M
footprint DB9/F
pins: 1, 2, 3, 4, 5, 6, 7, 8, 9
2 alternate drawings of the same symbol

## DIODE
designator D?
Diode
footprint 3216+
footprint 0805+
footprint 0603+
pins: 1 A, 2 K
2 alternate drawings of the same symbol

## LDO1117
designator U?
LDO
footprint SOT-223
footprint SOT-23 (Footprint not found)
footprint SOT-23-3 (Footprint not found)
pins: 1 G/ADJ (power), 2 VO (power), 3 VI (power)
2 alternate drawings of the same symbol

## LED
designator L?
LED
footprint 0805+
footprint 3216+
footprint 0603+
pins: 1 A, 2 K
2 alternate drawings of the same symbol

## NMOS
designator Q?
N-MOSFET
footprint SOT-523
footprint SOT-23 (Footprint not found)
pins: 1 G (in), 2 S (in), 3 D (in)
2 alternate drawings of the same symbol

## NPN
designator T?
NPN BJT
footprint SOT-23 (Footprint not found)
pins: 1 B (in), 2 E (in), 3 C (in)

## OPTO
designator U?
Optoisolator
footprint DIP4
footprint SOP4
pins: 1 A, 2 K, 3 E, 4 C
2 alternate drawings of the same symbol

## PCI32
designator P?
32Bit PCI Bus
footprint PCI32
pins: 1 -12V, 2 TCK, 3 GND, 4 TDO, 5 +5V, 6 +5V, 7 INTB, 8 INTD, 9 PRSNT1, 10 RESVD, 11 PRSNT2, 12 GND5V, 13 GND5V, 14 RESVD, 15 GND, 16 CLK, 17 GND, 18 REQ, 19 +VIO, 20 AD31, 21 AD29, 22 GND, 23 AD27, 24 AD25, 25 +3.3V, 26 CBE3, 27 AD23, 28 GND, 29 AD21, 30 AD19, 31 +3.3V, 32 AD17, 33 CBE2, 34 GND, 35 IRDY, 36 +3.3V, 37 DEVSEL, 38 GND, 39 LOCK, 40 PERR, 41 +3.3V, 42 SERR, 43 +3.3V, 44 CBE1, 45 AD14, 46 GND, 47 AD12, 48 AD10, 49 GND, 50 GND3V3, 51 GND3V3, 52 AD08, 53 AD07, 54 +3.3V, 55 AD05, 56 AD03, 57 GND, 58 AD01, 59 +VIO, 60 ACK64, 61 +5V, 62 +5V, 63 +5V, 64 +5V, 65 REQ64, 66 +VIO, 67 AD00, 68 AD02, 69 GND, 70 AD04, 71 AD06, 72 +3.3V, 73 CBE0, 74 GND3V3, 75 GND3V3, 76 AD09, 77 GND, 78 AD11, 79 AD13, 80 +3.3V, 81 AD15, 82 PAR, 83 GND, 84 SMBSDA, 85 SMBCLK, 86 +3.3V, 87 STOP, 88 GND, 89 TRDY, 90 GND, 91 FRAME, 92 +3.3V, 93 AD16, 94 AD18, 95 GND, 96 AD20, 97 AD22, 98 +3.3V, 99 IDSEL, 100 AD24, 101 GND, 102 AD26, 103 AD28, 104 +3.3V, 105 AD30, 106 PME, 107 GND, 108 GNT, 109 +VIO, 110 RST, 111 3V3AUX, 112 GND5V, 113 GND5V, 114 RESVD, 115 +VIO, 116 RESVD, 117 +5V, 118 INTC, 119 INTA, 120 +5V, 121 TDI, 122 TMS, 123 +12V, 124 TRST

## PCI32S
designator P?
32Bit PCI Bus, simple / short card
footprint PCI32
footprint PCI32S
pins: 1 -12V, 4 TDO, 5 +5V, 6 +5V, 9 PRSNT1, 11 PRSNT2, 12 GND, 13 GND, 15 GND, 16 CLK, 17 GND, 20 AD31, 21 AD29, 23 AD27, 24 AD25, 26 CBE3, 27 AD23, 29 AD21, 30 AD19, 32 AD17, 33 CBE2, 35 IRDY, 37 DEVSEL, 38 GND, 41 +3.3V, 43 +3.3V, 44 CBE1, 45 AD14, 47 AD12, 48 AD10, 49 GND, 52 AD08, 53 AD07, 55 AD05, 56 AD03, 58 AD01, 61 +5V, 62 +5V, 63 +5V, 64 +5V, 67 AD00, 68 AD02, 69 GND, 70 AD04, 71 AD06, 73 CBE0, 76 AD09, 78 AD11, 79 AD13, 81 AD15, 82 PAR, 83 GND, 86 +3.3V, 87 STOP, 88 GND, 89 TRDY, 90 GND, 91 FRAME, 93 AD16, 94 AD18, 96 AD20, 97 AD22, 99 IDSEL, 100 AD24, 102 AD26, 103 AD28, 105 AD30, 107 GND, 110 RST, 111 3V3AUX, 112 GND, 113 GND, 119 INTA, 120 +5V, 121 TDI, 123 +12V

## PCIE1
designator P?
PCIe Bus 1X
footprint PCIE1
pins: 1 +12V (power), 2 +12V (power), 3 RSVD, 4 GND (power), 5 SMCLK, 6 SMDAT, 7 GND (power), 8 +3.3V (power), 9 TRST, 10 3.3AUX (power), 11 WAKE#, 12 RSVD, 13 GND (power), 14 PETP (out), 15 PETN (out), 16 GND (power), 17 PRSNT2, 18 GND (power), 19 GND (power), 20 PERN (in), 21 PERP (in), 22 GND (power), 23 PECKN (out), 24 PECKP (out), 25 GND (power), 26 PERST# (out), 27 +3.3V (power), 28 +3.3V (power), 29 TMS, 30 TDO, 31 TDI, 32 TCK, 33 GND (power), 34 +12V (power), 35 +12V (power), 36 PRSNT1

## PCIE1S
designator P?
PCIe Bus 1X, simple
footprint PCIE1
pins: 1 +12V (power), 2 +12V (power), 4 GND (power), 7 GND (power), 8 +3.3V (power), 10 3.3AUX (power), 11 WAKE#, 13 GND (power), 14 PETP (out), 15 PETN (out), 16 GND (power), 17 PRSNT2, 18 GND (power), 19 GND (power), 20 PERN (in), 21 PERP (in), 22 GND (power), 23 PECKN (out), 24 PECKP (out), 25 GND (power), 26 PERST# (out), 27 +3.3V (power), 28 +3.3V (power), 30 TDO, 31 TDI, 33 GND (power), 34 +12V (power), 35 +12V (power), 36 PRSNT1

## PMOS
designator Q?
P-MOSFET
footprint SOT-523
footprint SOT-23 (Footprint not found)
pins: 1 G (in), 2 S (in), 3 D (in)
2 alternate drawings of the same symbol

## PNP
designator T?
PNP BJT
footprint SOT-23 (Footprint not found)
pins: 1 B (in), 2 E (in), 3 C (in)

## RJ45
designator P?
RJ45 for Ethernet
footprint RJ45
pins: 1 TX+, 2 TX-, 3 RX+, 4 NC, 5 NC, 6 RX-, 7 NC, 8 NC
2 alternate drawings of the same symbol

## RJ45T
designator P?
RJ45 for Ethernet with Isolation Transformer
footprint RJ45T
footprint RJ45A
pins: 1, 2, 3, 4, 5, 6, 7, 8, 9, 10, 11, 12
2 alternate drawings of the same symbol
text: J8; RD-; J7; J6; RX-; J5; RD+; J4; TD-; J3; RX+; J2; TX-; J1; TX+; TD+; NC; 1000pF; 4x75 ohms; 2KV; GND

## SPIFLASH
designator U?
SPI Flash ROM
footprint SOP8
pins: 1 CE# (in), 2 SO (io), 3 WP# (io), 4 GND (power), 5 SI (io), 6 SCK (in), 7 HOLD# (io), 8 VDD (power)
2 alternate drawings of the same symbol

## TF_CARD
designator P?
TF card interface
footprint TF_CARD
pins: 1 DAT2/RSV, 2 CD/DAT3/CS, 3 CMD/DI, 4 VDD, 5 CLK/SCLK, 6 VSS, 7 DAT0/DO, 8 DAT1/RSV, 9 C/D, 10 GND
2 alternate drawings of the same symbol

## USB
designator P?
USB Port
footprint USBAF
footprint USBB
pins: 0 GND (power), 0 GND (power), 1 +5V (power), 2 UD- (io), 3 UD+ (io), 4 GND (power)

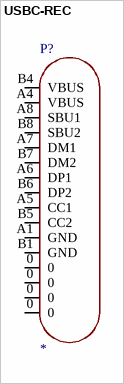
[diagram p50: symbol USBC-REC]

## USBC-REC
designator P?
USB Type-C USB
footprint TYPE-C-Receptacle-2.0
pins: 0, 0, 0, 0, A1 GND, A4 VBUS, A5 CC1, A6 DP1, A7 DM1, A8 SBU1, B1 GND, B4 VBUS, B5 CC2, B6 DP2, B7 DM2, B8 SBU2
2 alternate drawings of the same symbol